# EAGLE library part MYCON2_USB-MINI-B (library SmartPrj)
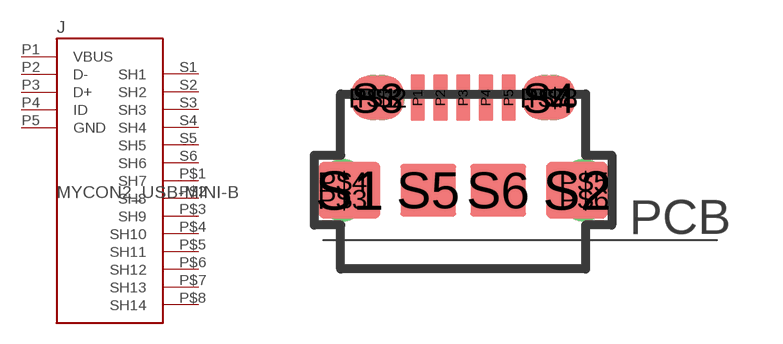
[diagram p3: symbol with the pads of CON2_USB_MICRO_B_AT; footprint CON2_USB_MICRO_B_AT]

Designator prefix J

## MYCON2_USB-MINI-B  [CON2_USB_MICRO_B_AT]
P1  VBUS  pwr
P2  D-
P3  D+
P4  ID
P5  GND  pas
P$1  SH7  pas
P$2  SH8  pas
P$3  SH9  pas
P$4  SH10  pas
P$5  SH11  pas
P$6  SH12  pas
P$7  SH13  pas
P$8  SH14  pas
S1  SH1  pas
S2  SH2  pas
S3  SH3  pas
S4  SH4  pas
S5  SH5  pas
S6  SH6  pas

## Footprint CON2_USB_MICRO_B_AT (pad centres in mm)
smd 0.406 x 1.346: P1 -1.321,2.692; P2 -0.66,2.692; P3 0,2.692; P4 0.66,2.692; P5 1.321,2.692
drill 0.8 pad 1.27: P$1 -2.616,2.692
drill 0.8 pad 1.245: P$2 -2.362,2.692; P$7 2.362,2.692; P$8 2.616,2.692
drill 0.8 pad 1.143: P$3 -3.505,-0.254; P$4 -3.505,0.254; P$5 3.505,0.254; P$6 3.505,-0.254
smd 1.778 x 1.651: S1 -3.302,0; S2 3.302,0
smd 1.524 x 1.27: S3 -2.489,2.692; S4 2.489,2.692
smd 1.626 x 1.524: S5 -1.016,0; S6 1.016,0